# Altium footprint library DOME_SWITCH_6MM.PcbLib: 1 footprints
Each footprint in its own frame and in the unit in brackets; x right, y up, seen from the top. Pads: shape width x height; smd on the part's side, far side on the other; paste and mask are expansions set on the pad; w line width, h text height; cw(c..) or ccw(c..) is an arc to the next point about the centre after c.
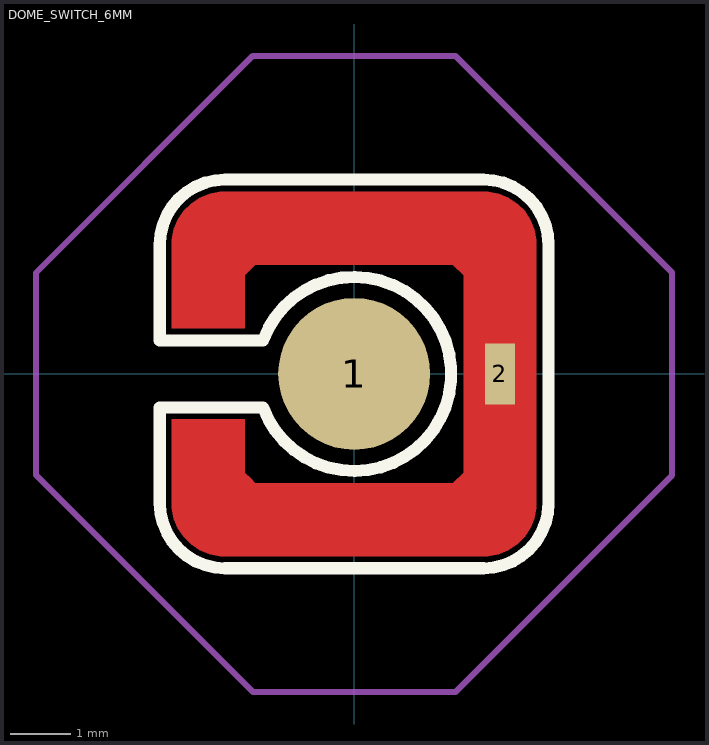
[diagram p0: the footprint, top view; thin cyan lines are the x and y axes]

## DOME_SWITCH_6MM [mm]
pads (2):
  round 2.5 smd: 1(0,0)
  rect 0.5x1 smd: 2(2.4,0)
Top Layer:
  region: -1.8,0.75 -3,0.75 -3,2.125 -3,2.211 -2.966,2.38 -2.9,2.539 -2.805,2.683 -2.683,2.805 -2.539,2.9 -2.38,2.966 -2.211,3 -2.125,3 2.125,3 2.211,3 2.38,2.966 2.539,2.9 2.683,2.805 2.805,2.683 2.9,2.539 2.966,2.38 3,2.211 3,2.125 3,-2.125 3,-2.211 2.966,-2.38 2.9,-2.539 2.805,-2.683 2.683,-2.805 2.539,-2.9 2.38,-2.966 2.211,-3 2.125,-3 -2.125,-3 -2.211,-3 -2.38,-2.966 -2.539,-2.9 -2.683,-2.805 -2.805,-2.683 -2.9,-2.539 -2.966,-2.38 -3,-2.211 -3,-2.125 -3,-0.75 -1.8,-0.75 -1.8,-1.625 -1.713,-1.712 -1.712,-1.712 -1.712,-1.713 -1.625,-1.8 1.625,-1.8 1.8,-1.625 1.8,1.625 1.625,1.8 -1.625,1.8 -1.8,1.625
Top Overlay:
  lines w0.2: -3.2,-2.125 ccw(c-2.125,-2.125) -2.125,-3.2 2.125,-3.2 ccw(c2.125,-2.125) 3.2,-2.125 3.2,2.125 ccw(c2.125,2.125) 2.125,3.2 -2.125,3.2 ccw(c-2.125,2.125) -3.2,2.125 -3.2,0.55 -1.5,0.55 cw(c0,0) -1.5,-0.55 -3.2,-0.55 -3.2,-2.125
Top Courtyard:
  lines w0.1: -5.241,-1.661 -3.451,-3.451 -1.664,-5.238 1.664,-5.238 5.235,-1.667 5.235,1.667 1.667,5.235 -1.667,5.235 -5.241,1.661 -5.241,-1.661
3D body "SPEOT0177.STEP": height 0.3, standoff 0, extent -4.238,-4.238 4.233,4.233